# EAGLE library part NCR321PASX (library NCR321PASX)
LED Driver IC 1 Output Linear Constant Current PWM Dimming 250mA DFN2020D-6 Source: Datasheet <https://assets.nexperia.com/documents/data-sheet/NCR320PAS_NCR321PAS.pdf>
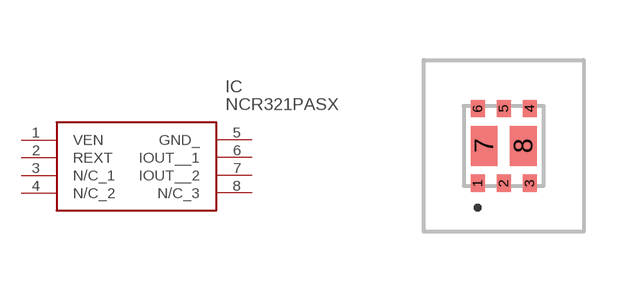
[diagram p0: symbol with the pads of NCR321PASX; footprint NCR321PASX]

Designator prefix IC

## NCR321PASX (Description: LED Driver IC 1 Output Linear Constant Current PWM Dimming 250mA DFN2020D-6; Height: 0.65mm; Manufacturer_Name: Nexperia; Manufacturer_Part_Number: NCR321PASX)  [NCR321PASX]
1  VEN
2  REXT
3  N/C_1
4  N/C_2
5  GND_
6  IOUT__1
7  IOUT__2
8  N/C_3

## Footprint NCR321PASX (pad centres in mm)
NCR321PASX-3
smd 0.35 x 0.43: 1 -0.65,-0.935; 2 0,-0.935; 3 0.65,-0.935; 4 0.65,0.935; 5 0,0.935; 6 -0.65,0.935
smd 0.67 x 1: 7 -0.49,0; 8 0.49,0